# Altium integrated library ON Semi General Purpose Transistors.IntLib: 1679 symbols (part 29 of 36)
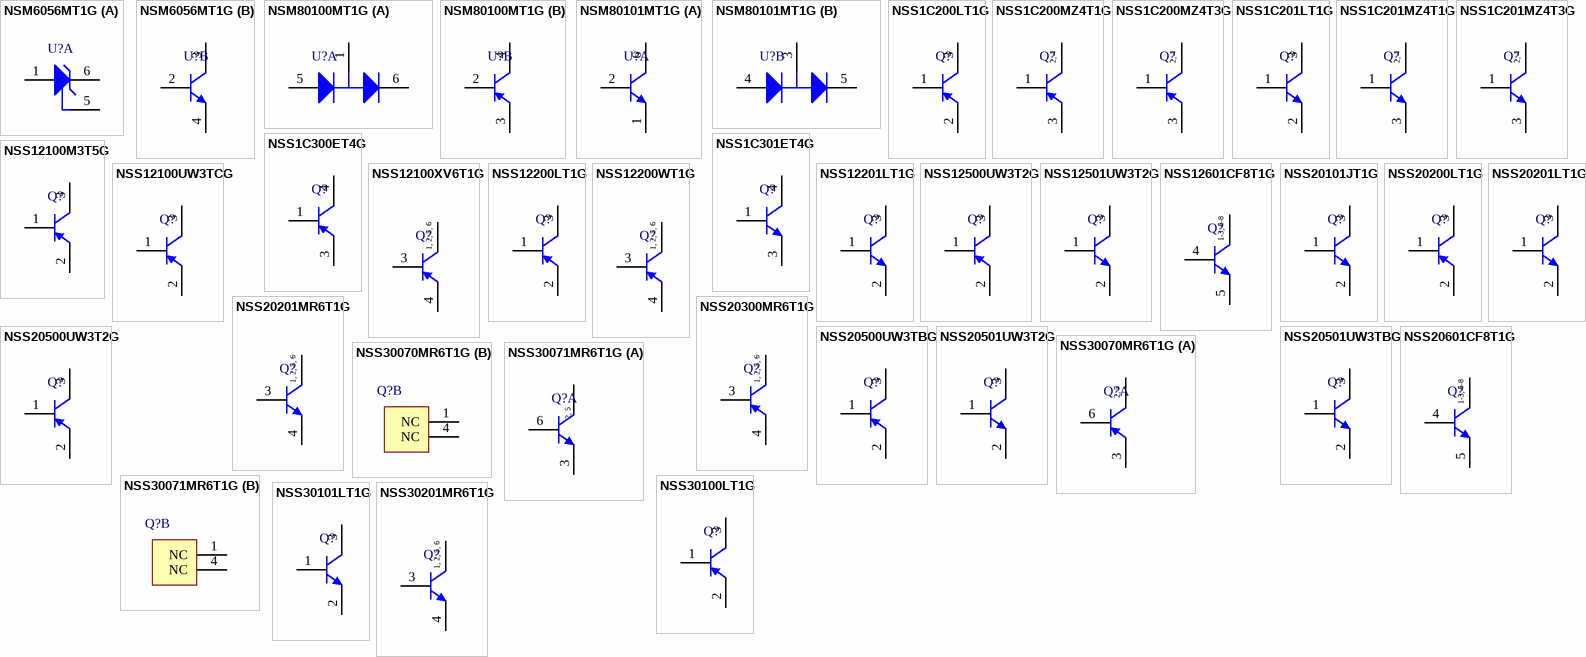
[diagram p73: symbols NSM6056MT1G to NSS30201MR6T1G]

## NSS1C300ET4G
designator Q?
100 V, 3 A, Low VCE(sat), PNP Transistor, 3-Pin DPAK, Pb-Free, Tape and Reel; Manufacturer: On Semiconductor; PartNumber: NSS1C300ET4G; Note: 0; IC Continuous (A): 3; DatasheetVersion: Rev. 6; PackageVersion: Rev. E, 02/2014; PackageReference: DPAK-3-369C-01; PackageDescription: 3-Pin Flange Mount, Body 6.54 x 6.095 mm, Pitch 2.29 mm; Packing: Tape and Reel; Polarity: PNP; RoHS: TRUE; Mounting Technology: Surface Mount; ComponentLink1Description: Manufacturer URL; ComponentLink1URL: http://www.onsemi.com/; ComponentLink2Description: Datasheet; ComponentLink2URL: http://www.onsemi.cn/pub_link/Collateral/NSS1C300E-D.PDF; ComponentLink3Description: Package Specification; ComponentLink3URL: http://www.onsemi.cn/pub_link/Collateral/369C.PDF
footprint ONSC-DPAK-3-369C-01_V (DPAK, 3-Leads, Body 6.54x6.095mm, Pitch 2.29mm)
pins: 1 B, 3 E, 4 C

## NSS1C301ET4G
designator Q?
100 V, 3 A, Low VCE(sat), NPN Transistor, 3-Pin DPAK, Pb-Free, Tape and Reel; Manufacturer: On Semiconductor; PartNumber: NSS1C301ET4G; IC Continuous (A): 3; DatasheetVersion: Rev. 3; PackageVersion: Rev. E, 02/2014; PackageReference: DPAK-3-369C-01; PackageDescription: 3-Pin Flange Mount, Body 6.54 x 6.095 mm, Pitch 2.29 mm; Supplier 1: Newark; Supplier Part Number 1: 63W4908; Packing: Tape and Reel; Polarity: NPN; RoHS: TRUE; Mounting Technology: Surface Mount; ComponentLink1Description: Manufacturer URL; ComponentLink1URL: http://www.onsemi.com/; ComponentLink2Description: Datasheet; ComponentLink2URL: http://www.onsemi.cn/pub_link/Collateral/NSS1C301E-D.PDF; ComponentLink3Description: Package Specification; ComponentLink3URL: http://www.onsemi.cn/pub_link/Collateral/369C.PDF
footprint ONSC-DPAK-3-369C-01_V (DPAK, 3-Leads, Body 6.54x6.095mm, Pitch 2.29mm)
pins: 1 B, 3 E, 4 C

## NSS12100M3T5G
designator Q?
12 V, 1 A, Low VCE(sat), PNP Transistor, 3-Pin SOT-723, Pb-Free, Tape and Reel; Manufacturer: On Semiconductor; PartNumber: NSS12100M3T5G; IC Continuous (A): -1; DatasheetVersion: Rev. 0; PackageVersion: Rev. C, 08/2006; PackageReference: SOT-723-3-631AA-01_C; PackageDescription: 3-Pin SOT223, Body 0.8 x 1.2 mm, Pitch 0.4 mm; Supplier 1: Digi-Key; Supplier Part Number 1: NSS12100M3T5GOSTR-ND; Supplier 2: Digi-Key; Supplier Part Number 2: NSS12100M3T5GOSCT-ND; Supplier 3: Digi-Key; Supplier Part Number 3: NSS12100M3T5GOSDKR-ND; Supplier 4: Newark; Supplier Part Number 4: 57M9898; Supplier 5: Mouser; Supplier Part Number 5: 863-NSS12100M3T5G; Packing: Tape and Reel; Polarity: PNP; RoHS: TRUE; Mounting Technology: Surface Mount; ComponentLink1Description: Manufacturer URL; ComponentLink1URL: http://www.onsemi.com/; ComponentLink2Description: Datasheet; ComponentLink2URL: http://www.onsemi.cn/pub_link/Collateral/NSS12100M3-D.PDF; ComponentLink3Description: Package Specification; ComponentLink3URL: http://www.onsemi.cn/pub_link/Collateral/BAT54M3-D.PDF
footprint ONSC-SOT-723-3-631AA-01_C_V (SOT23, 3-Leads, Body 1.25x0.85mm, Pitch 0.4mm)
pins: 1 B, 2 E, 3 C

## NSS12100UW3TCG
designator Q?
12 V, 1 A, Low VCE(sat), PNP Transistor, 3-Pin WDFN, Pb-Free, Tape and Reel; Manufacturer: On Semiconductor; PartNumber: NSS12100UW3TCG; fT Min (MHz): 200; IC Continuous (A): -1; DatasheetVersion: Rev. 0; PackageVersion: Rev. O, 09/2005; PackageReference: WDFN-3-506AU-01; PackageDescription: 3-Pin Small Outline No-Lead, Body 2 x 2 mm, Pitch 1.3 mm; Supplier 1: Digi-Key; Supplier Part Number 1: NSS12100UW3TCGOSTR-ND; Supplier 2: Digi-Key; Supplier Part Number 2: NSS12100UW3TCGOSCT-ND; Supplier 3: Digi-Key; Supplier Part Number 3: NSS12100UW3TCGOSDKR-ND; Supplier 4: Newark; Supplier Part Number 4: 01P5106; Supplier 5: Mouser; Supplier Part Number 5: 863-NSS12100UW3TCG; Packing: Tape and Reel; Polarity: PNP; RoHS: TRUE; Mounting Technology: Surface Mount; ComponentLink1Description: Manufacturer URL; ComponentLink1URL: http://www.onsemi.com/; ComponentLink2Description: Datasheet; ComponentLink2URL: http://www.onsemi.cn/pub_link/Collateral/NSS12100UW3-D.PDF; ComponentLink3Description: Package Specification; ComponentLink3URL: http://www.onsemi.com/pub_link/Collateral/506AU.PDF
footprint ONSC-WDFN-3-506AU-01_V (WDFN, 3-Leads, Body 2 x 2mm, Pitch 1.3mm)
pins: 1 B, 2 E, 3 C

## NSS12100XV6T1G
designator Q?
12 V, 1 A, Low VCE(sat), PNP Transistor, 6-Pin SOT-563, Pb-Free, Tape and Reel; Manufacturer: On Semiconductor; PartNumber: NSS12100XV6T1G; IC Continuous (A): -1; DatasheetVersion: Rev. 0; PackageVersion: Rev. F, 04/2005; PackageReference: SOT-563-6-463A-01; PackageDescription: 6-Pin Small Outline Transistor, Body 1.6 x 1.2 mm, Pitch 0.5 mm; Supplier 1: Digi-Key; Supplier Part Number 1: NSS12100XV6T1GOSTR-ND; Supplier 2: Digi-Key; Supplier Part Number 2: NSS12100XV6T1GOSCT-ND; Supplier 3: Digi-Key; Supplier Part Number 3: NSS12100XV6T1GOSDKR-ND; Supplier 4: Farnell; Supplier Part Number 4: 2317587; Supplier 5: Farnell; Supplier Part Number 5: 2369154; Supplier 6: Newark; Supplier Part Number 6: 09R9614; Supplier 7: Newark; Supplier Part Number 7: 27M2679; Supplier 8: Mouser; Supplier Part Number 8: 863-NSS12100XV6T1G; Packing: Tape and Reel; Polarity: PNP; RoHS: TRUE; Mounting Technology: Surface Mount; ComponentLink1Description: Manufacturer URL; ComponentLink1URL: http://www.onsemi.com/; ComponentLink2Description: Datasheet; ComponentLink2URL: http://www.onsemi.cn/pub_link/Collateral/NSS12100XV6-D.PDF; ComponentLink3Description: Package Specification; ComponentLink3URL: http://www.onsemi.cn/pub_link/Collateral/463A-01.PDF
footprint ONSC-SOT-563-6-463A-01_V (SOT23, 6-Leads, Body 1.6x1.2mm, Pitch 0.5mm)
pins: 1 C, 2 C, 3 B, 4 E, 5 C, 6 C
text: 1, 2, 5, 6

## NSS12200LT1G
designator Q?
12 V, 4 A, Low VCE(sat), PNP Transistor, 3-Pin SOT-23, Pb-Free, Tape and Reel; Manufacturer: On Semiconductor; PartNumber: NSS12200LT1G; fT Min (MHz): 100; IC Continuous (A): -2; DatasheetVersion: Rev. 3; PackageVersion: Rev. AP, 11/2009; PackageReference: SOT-23-3-318-08; PackageDescription: 3-Pin Small Outline Transistor, Body 2.92 x 1.3 mm, Pitch 0.95 mm; Supplier 1: Digi-Key; Supplier Part Number 1: NSS12200LT1GOSTR-ND; Supplier 2: Digi-Key; Supplier Part Number 2: NSS12200LT1GOSCT-ND; Supplier 3: Digi-Key; Supplier Part Number 3: NSS12200LT1GOSDKR-ND; Supplier 4: Newark; Supplier Part Number 4: 27M2680; Supplier 5: Mouser; Supplier Part Number 5: 863-NSS12200LT1G; Packing: Tape and Reel; Polarity: PNP; RoHS: TRUE; Mounting Technology: Surface Mount; ComponentLink1Description: Manufacturer URL; ComponentLink1URL: http://www.onsemi.com/; ComponentLink2Description: Datasheet; ComponentLink2URL: http://www.onsemi.cn/pub_link/Collateral/NSS12200L-D.PDF; ComponentLink3Description: Package Specification; ComponentLink3URL: http://www.onsemi.cn/pub_link/Collateral/318-08.PDF
footprint ONSC-SOT-23-3-318-08_V (SOT23, 3-Leads, Body 2.92x1.3mm, Pitch 0.95mm)
pins: 1 B, 2 E, 3 C

## NSS12200WT1G
designator Q?
12 V, 2 A, Low VCE(sat), PNP Transistor, 6-Pin SOT-363, Pb-Free, Tape and Reel; Manufacturer: On Semiconductor; PartNumber: NSS12200WT1G; IC Continuous (A): -2; DatasheetVersion: Rev. 2; PackageVersion: Rev. W, 01/2006; PackageReference: SOT-363-6-419B-02_W; PackageDescription: 6-Pin Small Outline Transistor, Body 2 x 1.25 mm, Pitch 0.65 mm; Supplier 1: Digi-Key; Supplier Part Number 1: NSS12200WT1GOSTR-ND; Supplier 2: Digi-Key; Supplier Part Number 2: NSS12200WT1GOSCT-ND; Supplier 3: Digi-Key; Supplier Part Number 3: NSS12200WT1GOSDKR-ND; Supplier 4: Mouser; Supplier Part Number 4: 863-NSS12200WT1G; Packing: Tape and Reel; Polarity: PNP; RoHS: TRUE; Mounting Technology: Surface Mount; ComponentLink1Description: Manufacturer URL; ComponentLink1URL: http://www.onsemi.com/; ComponentLink2Description: Datasheet; ComponentLink2URL: http://www.onsemi.cn/pub_link/Collateral/NSS12200WT1G-D.PDF; ComponentLink3Description: Package Specification; ComponentLink3URL: http://www.onsemi.com/pub_link/Collateral/NTJD4001N-D.PDF
footprint ONSC-SOT-363-6-419B-02_W_V (SOT23, 6-Leads, Body 2x1.25mm, Pitch 0.65mm)
pins: 1 C, 2 C, 3 B, 4 E, 5 C, 6 C
text: 1, 2, 5, 6

## NSS12201LT1G
designator Q?
12 V, 4 A, Low VCE(sat), NPN Transistor, 3-Pin SOT-23, Pb-Free, Tape and Reel; Manufacturer: On Semiconductor; PartNumber: NSS12201LT1G; fT Min (MHz): 150; IC Continuous (A): 2; DatasheetVersion: Rev. 5; PackageVersion: Rev. AP, 11/2009; PackageReference: SOT-23-3-318-08; PackageDescription: 3-Pin Small Outline Transistor, Body 2.92 x 1.3 mm, Pitch 0.95 mm; Supplier 1: Digi-Key; Supplier Part Number 1: NSS12201LT1GOSTR-ND; Supplier 2: Digi-Key; Supplier Part Number 2: NSS12201LT1GOSCT-ND; Supplier 3: Digi-Key; Supplier Part Number 3: NSS12201LT1GOSDKR-ND; Supplier 4: Farnell; Supplier Part Number 4: 1468035; Supplier 5: Newark; Supplier Part Number 5: 50M4390; Supplier 6: Mouser; Supplier Part Number 6: 863-NSS12201LT1G; Packing: Tape and Reel; Polarity: NPN; RoHS: TRUE; Mounting Technology: Surface Mount; ComponentLink1Description: Manufacturer URL; ComponentLink1URL: http://www.onsemi.com/; ComponentLink2Description: Datasheet; ComponentLink2URL: http://www.onsemi.cn/pub_link/Collateral/NSS12201L-D.PDF; ComponentLink3Description: Package Specification; ComponentLink3URL: http://www.onsemi.cn/pub_link/Collateral/318-08.PDF
footprint ONSC-SOT-23-3-318-08_V (SOT23, 3-Leads, Body 2.92x1.3mm, Pitch 0.95mm)
pins: 1 B, 2 E, 3 C

## NSS12500UW3T2G
designator Q?
12 V, 8 A, Low VCE(sat), PNP Transistor, 3-Pin WDFN, Pb-Free, Tape and Reel; Manufacturer: On Semiconductor; PartNumber: NSS12500UW3T2G; fT Min (MHz): 100; IC Continuous (A): -5; DatasheetVersion: Rev. 1; PackageVersion: Rev. O, 09/2005; PackageReference: WDFN-3-506AU-01; PackageDescription: 3-Pin Small Outline No-Lead, Body 2 x 2 mm, Pitch 1.3 mm; Supplier 1: Digi-Key; Supplier Part Number 1: NSS12500UW3T2GOSTR-ND; Supplier 2: Digi-Key; Supplier Part Number 2: NSS12500UW3T2GOSCT-ND; Supplier 3: Digi-Key; Supplier Part Number 3: NSS12500UW3T2GOSDKR-ND; Supplier 4: Newark; Supplier Part Number 4: 27M2681; Supplier 5: Mouser; Supplier Part Number 5: 863-NSS12500UW3T2G; Packing: Tape and Reel; Polarity: PNP; RoHS: TRUE; Mounting Technology: Surface Mount; ComponentLink1Description: Manufacturer URL; ComponentLink1URL: http://www.onsemi.com/; ComponentLink2Description: Datasheet; ComponentLink2URL: http://www.onsemi.cn/pub_link/Collateral/NSS12500UW3.PDF; ComponentLink3Description: Package Specification; ComponentLink3URL: http://www.onsemi.com/pub_link/Collateral/506AU.PDF
footprint ONSC-WDFN-3-506AU-01_V (WDFN, 3-Leads, Body 2 x 2mm, Pitch 1.3mm)
pins: 1 B, 2 E, 3 C

## NSS12501UW3T2G
designator Q?
12 V, 7 A, Low VCE(sat), NPN Transistor, 3-Pin WDFN, Pb-Free, Tape and Reel; Manufacturer: On Semiconductor; PartNumber: NSS12501UW3T2G; fT Min (MHz): 150; IC Continuous (A): 5; DatasheetVersion: Rev. 2; PackageVersion: Rev. O, 09/2005; PackageReference: WDFN-3-506AU-01; PackageDescription: 3-Pin Small Outline No-Lead, Body 2 x 2 mm, Pitch 1.3 mm; Supplier 1: Digi-Key; Supplier Part Number 1: NSS12501UW3T2GOSTR-ND; Supplier 2: Digi-Key; Supplier Part Number 2: NSS12501UW3T2GOSCT-ND; Supplier 3: Digi-Key; Supplier Part Number 3: NSS12501UW3T2GOSDKR-ND; Supplier 4: Mouser; Supplier Part Number 4: 863-NSS12501UW3T2G; Packing: Tape and Reel; Polarity: NPN; RoHS: TRUE; Mounting Technology: Surface Mount; ComponentLink1Description: Manufacturer URL; ComponentLink1URL: http://www.onsemi.com/; ComponentLink2Description: Datasheet; ComponentLink2URL: http://www.onsemi.cn/pub_link/Collateral/NSS12501UW3-D.PDF; ComponentLink3Description: Package Specification; ComponentLink3URL: http://www.onsemi.com/pub_link/Collateral/506AU.PDF
footprint ONSC-WDFN-3-506AU-01_V (WDFN, 3-Leads, Body 2 x 2mm, Pitch 1.3mm)
pins: 1 B, 2 E, 3 C

## NSS12601CF8T1G
designator Q?
12 V, 8 A, Low VCE(sat), NPN Transistor, 8-Pin CHIPFET, Pb-Free, Tape and Reel; Manufacturer: On Semiconductor; PartNumber: NSS12601CF8T1G; fT Min (MHz): 140; IC Continuous (A): 6; DatasheetVersion: Rev. 1; PackageVersion: Rev. H, 10/2006; PackageReference: CHIPFET-8-1206A-03; PackageDescription: 8-Pin ChipFET, Body 3.025 x 1.625 mm, Pitch 0.65 mm; Supplier 1: Digi-Key; Supplier Part Number 1: NSS12601CF8T1GOSTR-ND; Supplier 2: Digi-Key; Supplier Part Number 2: NSS12601CF8T1GOSCT-ND; Supplier 3: Digi-Key; Supplier Part Number 3: NSS12601CF8T1GOSDKR-ND; Supplier 4: Newark; Supplier Part Number 4: 50M4392; Supplier 5: Mouser; Supplier Part Number 5: 863-NSS12601CF8T1G; Packing: Tape and Reel; Polarity: NPN; RoHS: TRUE; Mounting Technology: Surface Mount; ComponentLink1Description: Manufacturer URL; ComponentLink1URL: http://www.onsemi.com/; ComponentLink2Description: Datasheet; ComponentLink2URL: http://www.onsemi.cn/pub_link/Collateral/NSS12601CF8-D.PDF; ComponentLink3Description: Package Specification; ComponentLink3URL: http://www.onsemi.cn/pub_link/Collateral/NSS12601CF8-D.PDF
footprint ONSC-CHIPFET-8-1206A-03_V (SON, 8-Leads, Body 3.026x1.626mm, Pitch 0.635mm)
pins: 1 C, 2 C, 3 C, 4 B, 5 E, 6 C, 7 C, 8 C
text: 1-3, 6-8

## NSS20101JT1G
designator Q?
20 V, 1 A, Low VCE(sat), NPN Transistor, 3-Pin SC-89, Pb-Free, Tape and Reel; Manufacturer: On Semiconductor; PartNumber: NSS20101JT1G; IC Continuous (A): 1; DatasheetVersion: Rev. 3; PackageVersion: Rev. C, 07/2003; PackageReference: SC-89-3-463C-02; PackageDescription: 3-Pin Small Outline Transistor, Body 1.6 x 0.85 mm, Pitch 0.5 mm; Supplier 1: Digi-Key; Supplier Part Number 1: NSS20101JT1GOSTR-ND; Supplier 2: Digi-Key; Supplier Part Number 2: NSS20101JT1GOSCT-ND; Supplier 3: Digi-Key; Supplier Part Number 3: NSS20101JT1GOSDKR-ND; Supplier 4: Farnell; Supplier Part Number 4: 2317600; Supplier 5: Newark; Supplier Part Number 5: 85W3179; Supplier 6: Mouser; Supplier Part Number 6: 863-NSS20101JT1G; Packing: Tape and Reel; Polarity: NPN; RoHS: TRUE; Mounting Technology: Surface Mount; ComponentLink1Description: Manufacturer URL; ComponentLink1URL: http://www.onsemi.com/; ComponentLink2Description: Datasheet; ComponentLink2URL: http://www.onsemi.com/pub_link/Collateral/NSS20101J-D.PDF; ComponentLink3Description: Package Specification; ComponentLink3URL: http://www.onsemi.com/pub_link/Collateral/463C-02.PDF
footprint ONSC-SC-89-3-463C-02_V (SOT23, 3-Leads, Body 1.6x0.85mm, Pitch 0.5mm)
pins: 1 B, 2 E, 3 C

## NSS20200LT1G
designator Q?
20 V, 4 A, Low VCE(sat), PNP Transistor, 3-Pin SOT-23, Pb-Free, Tape and Reel; Manufacturer: On Semiconductor; PartNumber: NSS20200LT1G; fT Min (MHz): 100; IC Continuous (A): -2; DatasheetVersion: Rev. 4; PackageVersion: Rev. AP, 11/2009; PackageReference: SOT-23-3-318-08; PackageDescription: 3-Pin Small Outline Transistor, Body 2.92 x 1.3 mm, Pitch 0.95 mm; Supplier 1: Digi-Key; Supplier Part Number 1: NSS20200LT1GOSTR-ND; Supplier 2: Digi-Key; Supplier Part Number 2: NSS20200LT1GOSCT-ND; Supplier 3: Digi-Key; Supplier Part Number 3: NSS20200LT1GOSDKR-ND; Supplier 4: Farnell; Supplier Part Number 4: 1887110; Supplier 5: Newark; Supplier Part Number 5: 09R9616; Supplier 6: Mouser; Supplier Part Number 6: 863-NSS20200LT1G; Packing: Tape and Reel; Polarity: PNP; RoHS: TRUE; Mounting Technology: Surface Mount; ComponentLink1Description: Manufacturer URL; ComponentLink1URL: http://www.onsemi.com/; ComponentLink2Description: Datasheet; ComponentLink2URL: http://www.onsemi.com/pub_link/Collateral/NSS20200L-D.PDF; ComponentLink3Description: Package Specification; ComponentLink3URL: http://www.onsemi.cn/pub_link/Collateral/318-08.PDF
footprint ONSC-SOT-23-3-318-08_V (SOT23, 3-Leads, Body 2.92x1.3mm, Pitch 0.95mm)
pins: 1 B, 2 E, 3 C

## NSS20201LT1G
designator Q?
20 V, 4 A, Low VCE(sat), NPN Transistor, 3-Pin SOT-23, Pb-Free, Tape and Reel; Manufacturer: On Semiconductor; PartNumber: NSS20201LT1G; fT Min (MHz): 150; IC Continuous (A): 2; DatasheetVersion: Rev. 6; PackageVersion: Rev. AP, 11/2009; PackageReference: SOT-23-3-318-08; PackageDescription: 3-Pin Small Outline Transistor, Body 2.92 x 1.3 mm, Pitch 0.95 mm; Supplier 1: Digi-Key; Supplier Part Number 1: NSS20201LT1GOSTR-ND; Supplier 2: Digi-Key; Supplier Part Number 2: NSS20201LT1GOSCT-ND; Supplier 3: Digi-Key; Supplier Part Number 3: NSS20201LT1GOSDKR-ND; Supplier 4: Newark; Supplier Part Number 4: 50M4393; Supplier 5: Mouser; Supplier Part Number 5: 863-NSS20201LT1G; Packing: Tape and Reel; Polarity: NPN; RoHS: TRUE; Mounting Technology: Surface Mount; ComponentLink1Description: Manufacturer URL; ComponentLink1URL: http://www.onsemi.com/; ComponentLink2Description: Datasheet; ComponentLink2URL: http://www.onsemi.com/pub_link/Collateral/NSS20201L-D.PDF; ComponentLink3Description: Package Specification; ComponentLink3URL: http://www.onsemi.cn/pub_link/Collateral/318-08.PDF
footprint ONSC-SOT-23-3-318-08_V (SOT23, 3-Leads, Body 2.92x1.3mm, Pitch 0.95mm)
pins: 1 B, 2 E, 3 C

## NSS20201MR6T1G
designator Q?
20 V, 3 A, Low VCE(sat), NPN Transistor, 6-Pin TSOP, Pb-Free, Tape and Reel; Manufacturer: On Semiconductor; PartNumber: NSS20201MR6T1G; fT Min (MHz): 200; IC Continuous (A): 2; DatasheetVersion: Rev. 0; PackageVersion: Rev. N, 02/2005; PackageReference: TSOP-6-318G-02_N; PackageDescription: 6-Pin Small Outline Package, Body 1.5 x 3 mm, Pitch 0.95 mm; Supplier 1: Digi-Key; Supplier Part Number 1: NSS20201MR6T1GOSTR-ND; Supplier 2: Digi-Key; Supplier Part Number 2: NSS20201MR6T1GOSCT-ND; Supplier 3: Digi-Key; Supplier Part Number 3: NSS20201MR6T1GOSDKR-ND; Supplier 4: Mouser; Supplier Part Number 4: 863-NSS20201MR6T1G; Packing: Tape and Reel; Polarity: NPN; RoHS: TRUE; Mounting Technology: Surface Mount; ComponentLink1Description: Manufacturer URL; ComponentLink1URL: http://www.onsemi.com/; ComponentLink2Description: Datasheet; ComponentLink2URL: http://www.onsemi.com/pub_link/Collateral/NSS20201MR6T1G.PDF; ComponentLink3Description: Package Specification; ComponentLink3URL: http://www.onsemi.com/pub_link/Collateral/NSS20201MR6T1G.PDF
footprint ONSC-TSOP-6-318G-02_N_V (TSOP, 6-Leads, Body 3x1.5mm, Pitch 0.95mm)
pins: 1 C, 2 C, 3 B, 4 E, 5 C, 6 C
text: 1, 2, 5, 6

## NSS20300MR6T1G
designator Q?
20 V, 5 A, Low VCE(sat), PNP Transistor, 6-Pin TSOP, Pb-Free, Tape and Reel; Manufacturer: On Semiconductor; PartNumber: NSS20300MR6T1G; fT Min (MHz): 100; IC Continuous (A): -3; DatasheetVersion: Rev. 2; PackageVersion: Rev. T, 02/2008; PackageReference: TSOP-6-318G-02_T; PackageDescription: 6-Pin Small Outline Package, Body 1.5 x 3 mm, Pitch 0.95 mm; Supplier 1: Digi-Key; Supplier Part Number 1: NSS20300MR6T1GOSTR-ND; Supplier 2: Digi-Key; Supplier Part Number 2: NSS20300MR6T1GOSCT-ND; Supplier 3: Digi-Key; Supplier Part Number 3: NSS20300MR6T1GOSDKR-ND; Supplier 4: Mouser; Supplier Part Number 4: 863-NSS20300MR6T1G; Packing: Tape and Reel; Polarity: PNP; RoHS: TRUE; Mounting Technology: Surface Mount; ComponentLink1Description: Manufacturer URL; ComponentLink1URL: http://www.onsemi.com/; ComponentLink2Description: Datasheet; ComponentLink2URL: http://www.onsemi.com/pub_link/Collateral/NSS20300MR6T1G-D.PDF; ComponentLink3Description: Package Specification; ComponentLink3URL: http://www.onsemi.com/pub_link/Collateral/NSS20300MR6T1G-D.PDF
footprint ONSC-TSOP-6-318G-02_T_V (SOP, 6-Leads, Body 3x1.5mm, Pitch 0.95mm)
pins: 1 C, 2 C, 3 B, 4 E, 5 C, 6 C
text: 1, 2, 5, 6

## NSS20500UW3T2G
designator Q?
20 V, 7 A, Low VCE(sat), PNP Transistor, 3-Pin WDFN, Pb-Free, Tape and Reel; Manufacturer: On Semiconductor; PartNumber: NSS20500UW3T2G; fT Min (MHz): 100; IC Continuous (A): -5; DatasheetVersion: Rev. 3; PackageVersion: Rev. O, 09/2005; PackageReference: WDFN-3-506AU-01; PackageDescription: 3-Pin Small Outline No-Lead, Body 2 x 2 mm, Pitch 1.3 mm; Supplier 1: Digi-Key; Supplier Part Number 1: NSS20500UW3T2GOSTR-ND; Supplier 2: Digi-Key; Supplier Part Number 2: NSS20500UW3T2GOSCT-ND; Supplier 3: Digi-Key; Supplier Part Number 3: NSS20500UW3T2GOSDKR-ND; Supplier 4: Mouser; Supplier Part Number 4: 863-NSS20500UW3T2G; Packing: Tape and Reel; Polarity: PNP; RoHS: TRUE; Mounting Technology: Surface Mount; ComponentLink1Description: Manufacturer URL; ComponentLink1URL: http://www.onsemi.com/; ComponentLink2Description: Datasheet; ComponentLink2URL: http://www.onsemi.com/pub_link/Collateral/NSS20500UW3-D.PDF; ComponentLink3Description: Package Specification; ComponentLink3URL: http://www.onsemi.com/pub_link/Collateral/506AU.PDF
footprint ONSC-WDFN-3-506AU-01_V (WDFN, 3-Leads, Body 2 x 2mm, Pitch 1.3mm)
pins: 1 B, 2 E, 3 C

## NSS20500UW3TBG
designator Q?
20 V, 7 A, Low VCE(sat), PNP Transistor, 3-Pin WDFN, Pb-Free, Tape and Reel; Manufacturer: On Semiconductor; PartNumber: NSS20500UW3TBG; fT Min (MHz): 100; IC Continuous (A): -5; DatasheetVersion: Rev. 3; PackageVersion: Rev. O, 09/2005; PackageReference: WDFN-3-506AU-01; PackageDescription: 3-Pin Small Outline No-Lead, Body 2 x 2 mm, Pitch 1.3 mm; Supplier 1: Newark; Supplier Part Number 1: 72W2310; Supplier 2: Mouser; Supplier Part Number 2: 863-NSS20500UW3TBG; Packing: Tape and Reel; Polarity: PNP; RoHS: TRUE; Mounting Technology: Surface Mount; ComponentLink1Description: Manufacturer URL; ComponentLink1URL: http://www.onsemi.com/; ComponentLink2Description: Datasheet; ComponentLink2URL: http://www.onsemi.com/pub_link/Collateral/NSS20500UW3-D.PDF; ComponentLink3Description: Package Specification; ComponentLink3URL: http://www.onsemi.com/pub_link/Collateral/506AU.PDF
footprint ONSC-WDFN-3-506AU-01_V (WDFN, 3-Leads, Body 2 x 2mm, Pitch 1.3mm)
pins: 1 B, 2 E, 3 C

## NSS20501UW3T2G
designator Q?
20 V, 7 A, Low VCE(sat), NPN Transistor, 3-Pin WDFN, Pb-Free, Tape and Reel; Manufacturer: On Semiconductor; PartNumber: NSS20501UW3T2G; fT Min (MHz): 150; IC Continuous (A): 5; DatasheetVersion: Rev. 3; PackageVersion: Rev. O, 09/2005; PackageReference: WDFN-3-506AU-01; PackageDescription: 3-Pin Small Outline No-Lead, Body 2 x 2 mm, Pitch 1.3 mm; Supplier 1: Digi-Key; Supplier Part Number 1: NSS20501UW3T2GOSTR-ND; Supplier 2: Digi-Key; Supplier Part Number 2: NSS20501UW3T2GOSCT-ND; Supplier 3: Digi-Key; Supplier Part Number 3: NSS20501UW3T2GOSDKR-ND; Supplier 4: Mouser; Supplier Part Number 4: 863-NSS20501UW3T2G; Packing: Tape and Reel; Polarity: NPN; RoHS: TRUE; Mounting Technology: Surface Mount; ComponentLink1Description: Manufacturer URL; ComponentLink1URL: http://www.onsemi.com/; ComponentLink2Description: Datasheet; ComponentLink2URL: http://www.onsemi.com/pub_link/Collateral/NSS20501UW3-D.PDF; ComponentLink3Description: Package Specification; ComponentLink3URL: http://www.onsemi.com/pub_link/Collateral/506AU.PDF
footprint ONSC-WDFN-3-506AU-01_V (WDFN, 3-Leads, Body 2 x 2mm, Pitch 1.3mm)
pins: 1 B, 2 E, 3 C

## NSS20501UW3TBG
designator Q?
20 V, 7 A, Low VCE(sat), NPN Transistor, 3-Pin WDFN, Pb-Free, Tape and Reel; Manufacturer: On Semiconductor; PartNumber: NSS20501UW3TBG; fT Min (MHz): 150; IC Continuous (A): 5; DatasheetVersion: Rev. 3; PackageVersion: Rev. O, 09/2005; PackageReference: WDFN-3-506AU-01; PackageDescription: 3-Pin Small Outline No-Lead, Body 2 x 2 mm, Pitch 1.3 mm; Supplier 1: Newark; Supplier Part Number 1: 72W2311; Supplier 2: Mouser; Supplier Part Number 2: 863-NSS20501UW3TBG; Packing: Tape and Reel; Polarity: NPN; RoHS: TRUE; Mounting Technology: Surface Mount; ComponentLink1Description: Manufacturer URL; ComponentLink1URL: http://www.onsemi.com/; ComponentLink2Description: Datasheet; ComponentLink2URL: http://www.onsemi.com/pub_link/Collateral/NSS20501UW3-D.PDF; ComponentLink3Description: Package Specification; ComponentLink3URL: http://www.onsemi.com/pub_link/Collateral/506AU.PDF
footprint ONSC-WDFN-3-506AU-01_V (WDFN, 3-Leads, Body 2 x 2mm, Pitch 1.3mm)
pins: 1 B, 2 E, 3 C

## NSS20601CF8T1G
designator Q?
20 V, 8 A, Low VCE(sat), NPN Transistor, 8-Pin CHIPFET, Pb-Free, Tape and Reel; Manufacturer: On Semiconductor; PartNumber: NSS20601CF8T1G; fT Min (MHz): 140; DatasheetVersion: Rev. 1; PackageVersion: Rev. H, 10/2006; PackageReference: CHIPFET-8-1206A-03; PackageDescription: 8-Pin ChipFET, Body 3.025 x 1.625 mm, Pitch 0.65 mm; Supplier 1: Digi-Key; Supplier Part Number 1: NSS20601CF8T1GOSTR-ND; Supplier 2: Digi-Key; Supplier Part Number 2: NSS20601CF8T1GOSCT-ND; Supplier 3: Digi-Key; Supplier Part Number 3: NSS20601CF8T1GOSDKR-ND; Supplier 4: Newark; Supplier Part Number 4: 50M4395; Supplier 5: Mouser; Supplier Part Number 5: 863-NSS20601CF8T1G; Packing: Tape and Reel; Polarity: NPN; RoHS: TRUE; Mounting Technology: Surface Mount; ComponentLink1Description: Manufacturer URL; ComponentLink1URL: http://www.onsemi.com/; ComponentLink2Description: Datasheet; ComponentLink2URL: http://www.onsemi.com/pub_link/Collateral/NSS20601CF8-D.PDF; ComponentLink3Description: Package Specification; ComponentLink3URL: http://www.onsemi.cn/pub_link/Collateral/NSS12601CF8-D.PDF
footprint ONSC-CHIPFET-8-1206A-03_V (SON, 8-Leads, Body 3.026x1.626mm, Pitch 0.635mm)
pins: 1 C, 2 C, 3 C, 4 B, 5 E, 6 C, 7 C, 8 C
text: 1-3, 6-8

## NSS30070MR6T1G
designator Q?
30 V, 0.7 A, Low VCE(sat), PNP Transistor, 6-Pin SC-74, Pb-Free, Tape and Reel; Manufacturer: On Semiconductor; PartNumber: NSS30070MR6T1G; IC Continuous (A): 0.7; DatasheetVersion: Rev. 1; PackageVersion: Rev. N, 06/2012; PackageReference: SC-74-6-318F-05; PackageDescription: 6-Pin Small Outline Transistor, Body 3 x 1.5 mm, Pitch 0.95 mm; Supplier 1: Digi-Key; Supplier Part Number 1: NSS30070MR6T1GOSTR-ND; Supplier 2: Digi-Key; Supplier Part Number 2: NSS30070MR6T1GOSCT-ND; Supplier 3: Digi-Key; Supplier Part Number 3: NSS30070MR6T1GOSDKR-ND; Supplier 4: Mouser; Supplier Part Number 4: 863-NSS30070MR6T1G; Packing: Tape and Reel; Polarity: PNP; RoHS: TRUE; Mounting Technology: Surface Mount; ComponentLink1Description: Manufacturer URL; ComponentLink1URL: http://www.onsemi.com/; ComponentLink2Description: Datasheet; ComponentLink2URL: http://www.onsemi.com/pub_link/Collateral/NSS30070MR6-D.PDF; ComponentLink3Description: Package Specification; ComponentLink3URL: http://www.onsemi.com/pub_link/Collateral/318F-05.PDF
footprint ONSC-SC-74-6-318F-05_V (SOT23, 6-Leads, Body 3x1.5mm, Pitch 0.95mm)
part A pins: 2 C, 3 E, 5 C, 6 B
part B pins: 1 NC, 4 NC
part A text: 2, 5

## NSS30071MR6T1G
designator Q?
30 V, 0.7 A, Low VCE(sat), NPN Transistor, 6-Pin SC-74, Pb-Free, Tape and Reel; Manufacturer: On Semiconductor; PartNumber: NSS30071MR6T1G; IC Continuous (A): 0.7; DatasheetVersion: Rev. 0; PackageVersion: Rev. N, 06/2012; PackageReference: SC-74-6-318F-05; PackageDescription: 6-Pin Small Outline Transistor, Body 3 x 1.5 mm, Pitch 0.95 mm; Supplier 1: Digi-Key; Supplier Part Number 1: NSS30071MR6T1GOSTR-ND; Supplier 2: Digi-Key; Supplier Part Number 2: NSS30071MR6T1GOSCT-ND; Supplier 3: Mouser; Supplier Part Number 3: 863-NSS30071MR6T1G; Packing: Tape and Reel; Polarity: NPN; RoHS: TRUE; Mounting Technology: Surface Mount; ComponentLink1Description: Manufacturer URL; ComponentLink1URL: http://www.onsemi.com/; ComponentLink2Description: Datasheet; ComponentLink2URL: http://www.onsemi.com/pub_link/Collateral/NSS30071MR6T1G.PDF; ComponentLink3Description: Package Specification; ComponentLink3URL: http://www.onsemi.com/pub_link/Collateral/318F-05.PDF
footprint ONSC-SC-74-6-318F-05_V (SOT23, 6-Leads, Body 3x1.5mm, Pitch 0.95mm)
part A pins: 2 C, 3 E, 5 C, 6 B
part B pins: 1 NC, 4 NC
part A text: 2, 5

## NSS30100LT1G
designator Q?
30 V, 2 A, Low VCE(sat), PNP Transistor, 3-Pin SOT-23, Pb-Free, Tape and Reel; Manufacturer: On Semiconductor; PartNumber: NSS30100LT1G; fT Min (MHz): 100; IC Continuous (A): -1; DatasheetVersion: Rev. 2; PackageVersion: Rev. AP, 11/2009; PackageReference: SOT-23-3-318-08; PackageDescription: 3-Pin Small Outline Transistor, Body 2.92 x 1.3 mm, Pitch 0.95 mm; Supplier 1: Digi-Key; Supplier Part Number 1: NSS30100LT1GOSTR-ND; Supplier 2: Digi-Key; Supplier Part Number 2: NSS30100LT1GOSCT-ND; Supplier 3: Digi-Key; Supplier Part Number 3: NSS30100LT1GOSDKR-ND; Supplier 4: Newark; Supplier Part Number 4: 61K1268; Supplier 5: Mouser; Supplier Part Number 5: 863-NSS30100LT1G; Packing: Tape and Reel; Polarity: PNP; RoHS: TRUE; Mounting Technology: Surface Mount; ComponentLink1Description: Manufacturer URL; ComponentLink1URL: http://www.onsemi.com/; ComponentLink2Description: Datasheet; ComponentLink2URL: http://www.onsemi.com/pub_link/Collateral/NSS30100LT1G-D.PDF; ComponentLink3Description: Package Specification; ComponentLink3URL: http://www.onsemi.cn/pub_link/Collateral/318-08.PDF
footprint ONSC-SOT-23-3-318-08_V (SOT23, 3-Leads, Body 2.92x1.3mm, Pitch 0.95mm)
pins: 1 B, 2 E, 3 C

## NSS30101LT1G
designator Q?
30 V, 2 A, Low VCE(sat), NPN Transistor, 3-Pin SOT-23, Pb-Free, Tape and Reel; Manufacturer: On Semiconductor; PartNumber: NSS30101LT1G; fT Min (MHz): 100; DatasheetVersion: Rev. 1; PackageVersion: Rev. AP, 11/2009; PackageReference: SOT-23-3-318-08; PackageDescription: 3-Pin Small Outline Transistor, Body 2.92 x 1.3 mm, Pitch 0.95 mm; Supplier 1: Digi-Key; Supplier Part Number 1: NSS30101LT1GOSTR-ND; Supplier 2: Digi-Key; Supplier Part Number 2: NSS30101LT1GOSCT-ND; Supplier 3: Digi-Key; Supplier Part Number 3: NSS30101LT1GOSDKR-ND; Supplier 4: Farnell; Supplier Part Number 4: 2317562; Supplier 5: Newark; Supplier Part Number 5: 09R9617; Supplier 6: Newark; Supplier Part Number 6: 61K1269; Supplier 7: Mouser; Supplier Part Number 7: 863-NSS30101LT1G; Packing: Tape and Reel; Polarity: NPN; RoHS: TRUE; Mounting Technology: Surface Mount; ComponentLink1Description: Manufacturer URL; ComponentLink1URL: http://www.onsemi.com/; ComponentLink2Description: Datasheet; ComponentLink2URL: http://www.onsemi.com/pub_link/Collateral/NSS30101LT1G-D.PDF; ComponentLink3Description: Package Specification; ComponentLink3URL: http://www.onsemi.cn/pub_link/Collateral/318-08.PDF
footprint ONSC-SOT-23-3-318-08_V (SOT23, 3-Leads, Body 2.92x1.3mm, Pitch 0.95mm)
pins: 1 B, 2 E, 3 C

## NSS30201MR6T1G
designator Q?
30 V, 3 A, Low VCE(sat), NPN Transistor, 6-Pin TSOP, Pb-Free, Tape and Reel; Manufacturer: On Semiconductor; PartNumber: NSS30201MR6T1G; fT Min (MHz): 200; IC Continuous (A): 2; DatasheetVersion: Rev. 1; PackageVersion: Rev. V, 06/2012; PackageReference: TSOP-6-318G-02; PackageDescription: 6-Pin Small Outline Package, Body 3 x 1.5 mm, Pitch 0.95 mm; Supplier 1: Digi-Key; Supplier Part Number 1: NSS30201MR6T1GOSTR-ND; Supplier 2: Digi-Key; Supplier Part Number 2: NSS30201MR6T1GOSCT-ND; Supplier 3: Newark; Supplier Part Number 3: 61K1270; Supplier 4: Mouser; Supplier Part Number 4: 863-NSS30201MR6T1G; Packing: Tape and Reel; Polarity: NPN; RoHS: TRUE; Mounting Technology: Surface Mount; ComponentLink1Description: Manufacturer URL; ComponentLink1URL: http://www.onsemi.com/; ComponentLink2Description: Datasheet; ComponentLink2URL: http://www.onsemi.com/pub_link/Collateral/NSS30201MR6T1G-D.PDF; ComponentLink3Description: Package Specification; ComponentLink3URL: http://www.onsemi.com/pub_link/Collateral/318G-02.PDF
footprint ONSC-TSOP-6-318G-02_V (SOP, 6-Leads, Body 3x1.5mm, Pitch 0.95mm)
pins: 1 C, 2 C, 3 B, 4 E, 5 C, 6 C
text: 1, 2, 5, 6

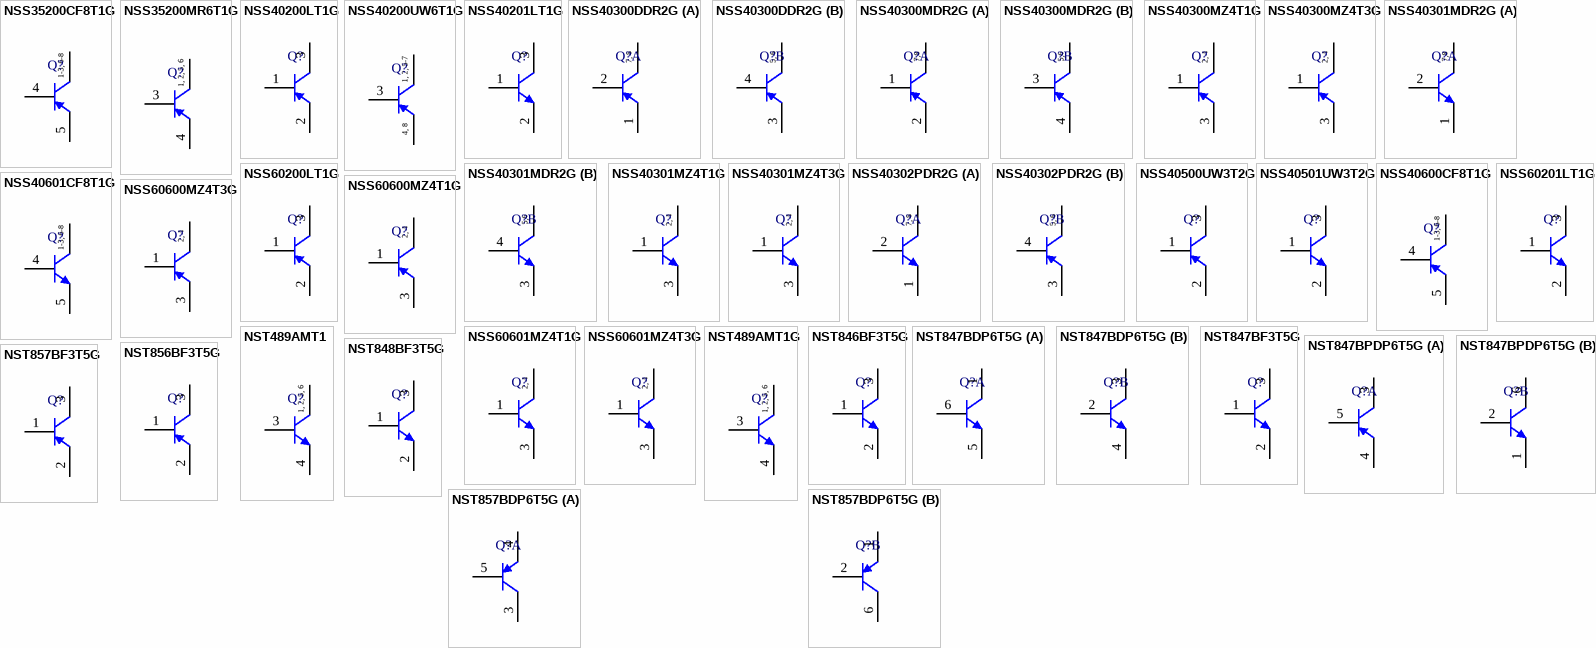
[diagram p36: symbols NSS35200CF8T1G to NST857BF3T5G]

## NSS35200CF8T1G
designator Q?
35 V, 7 A, Low VCE(sat), PNP Transistor, 8-Pin CHIPFET, Pb-Free, Tape and Reel; Manufacturer: On Semiconductor; PartNumber: NSS35200CF8T1G; fT Min (MHz): 100; IC Continuous (A): -2; DatasheetVersion: Rev. 5; PackageVersion: Rev. H, 10/2006; PackageReference: CHIPFET-8-1206A-03; PackageDescription: 8-Pin ChipFET, Body 3.025 x 1.625 mm, Pitch 0.65 mm; Supplier 1: Digi-Key; Supplier Part Number 1: NSS35200CF8T1GOSTR-ND; Supplier 2: Digi-Key; Supplier Part Number 2: NSS35200CF8T1GOSCT-ND; Supplier 3: Digi-Key; Supplier Part Number 3: NSS35200CF8T1GOSDKR-ND; Supplier 4: Mouser; Supplier Part Number 4: 863-NSS35200CF8T1G; Packing: Tape and Reel; Polarity: PNP; RoHS: TRUE; Mounting Technology: Surface Mount; ComponentLink1Description: Manufacturer URL; ComponentLink1URL: http://www.onsemi.com/; ComponentLink2Description: Datasheet; ComponentLink2URL: http://www.onsemi.com/pub_link/Collateral/NSS35200CF8T1G-D.PDF; ComponentLink3Description: Package Specification; ComponentLink3URL: http://www.onsemi.cn/pub_link/Collateral/NSS12601CF8-D.PDF
footprint ONSC-CHIPFET-8-1206A-03_V (SON, 8-Leads, Body 3.026x1.626mm, Pitch 0.635mm)
pins: 1 C, 2 C, 3 C, 4 B, 5 E, 6 C, 7 C, 8 C
text: 1-3, 6-8

## NSS35200MR6T1G
designator Q?
35 V, 5 A, Low VCE(sat), PNP Transistor, 6-Pin TSOP, Pb-Free, Tape and Reel; Manufacturer: On Semiconductor; PartNumber: NSS35200MR6T1G; fT Min (MHz): 100; IC Continuous (A): -2; DatasheetVersion: Rev. 5; PackageVersion: Rev. V, 06/2012; PackageReference: TSOP-6-318G-02; PackageDescription: 6-Pin Small Outline Package, Body 3 x 1.5 mm, Pitch 0.95 mm; Supplier 1: Digi-Key; Supplier Part Number 1: NSS35200MR6T1GOSTR-ND; Supplier 2: Digi-Key; Supplier Part Number 2: NSS35200MR6T1GOSCT-ND; Supplier 3: Digi-Key; Supplier Part Number 3: NSS35200MR6T1GOSDKR-ND; Supplier 4: Mouser; Supplier Part Number 4: 863-NSS35200MR6T1G; Packing: Tape and Reel; Polarity: PNP; RoHS: TRUE; Mounting Technology: Surface Mount; ComponentLink1Description: Manufacturer URL; ComponentLink1URL: http://www.onsemi.com/; ComponentLink2Description: Datasheet; ComponentLink2URL: http://www.onsemi.com/pub_link/Collateral/NSS35200MR6-D.PDF; ComponentLink3Description: Package Specification; ComponentLink3URL: http://www.onsemi.com/pub_link/Collateral/318G-02.PDF
footprint ONSC-TSOP-6-318G-02_V (SOP, 6-Leads, Body 3x1.5mm, Pitch 0.95mm)
pins: 1 C, 2 C, 3 B, 4 E, 5 C, 6 C
text: 1, 2, 5, 6

## NSS40200LT1G
designator Q?
40 V, 4 A, Low VCE(sat), PNP Transistor, 3-Pin SOT-23, Pb-Free, Tape and Reel; Manufacturer: On Semiconductor; PartNumber: NSS40200LT1G; fT Min (MHz): 100; IC Continuous (A): -2; DatasheetVersion: Rev. 5; PackageVersion: Rev. AP, 11/2009; PackageReference: SOT-23-3-318-08; PackageDescription: 3-Pin Small Outline Transistor, Body 2.92 x 1.3 mm, Pitch 0.95 mm; Supplier 1: Digi-Key; Supplier Part Number 1: NSS40200LT1GOSTR-ND; Supplier 2: Digi-Key; Supplier Part Number 2: NSS40200LT1GOSCT-ND; Supplier 3: Digi-Key; Supplier Part Number 3: NSS40200LT1GOSDKR-ND; Supplier 4: Newark; Supplier Part Number 4: 27M2686; Supplier 5: Mouser; Supplier Part Number 5: 863-NSS40200LT1G; Packing: Tape and Reel; Polarity: PNP; RoHS: TRUE; Mounting Technology: Surface Mount; ComponentLink1Description: Manufacturer URL; ComponentLink1URL: http://www.onsemi.com/; ComponentLink2Description: Datasheet; ComponentLink2URL: http://www.onsemi.com/pub_link/Collateral/NSS40200L-D.PDF; ComponentLink3Description: Package Specification; ComponentLink3URL: http://www.onsemi.cn/pub_link/Collateral/318-08.PDF
footprint ONSC-SOT-23-3-318-08_V (SOT23, 3-Leads, Body 2.92x1.3mm, Pitch 0.95mm)
pins: 1 B, 2 E, 3 C

## NSS40200UW6T1G
designator Q?
40 V, 4 A, Low VCE(sat), PNP Transistor, 6-Pin WDFN, Pb-Free, Tape and Reel; Manufacturer: On Semiconductor; PartNumber: NSS40200UW6T1G; fT Min (MHz): 140; IC Continuous (A): -2; DatasheetVersion: Rev. 0; PackageVersion: Rev. B, 04/2006; PackageReference: WDFN-6-506AP-01; PackageDescription: 6-Pin Small Outline No-Lead, Body 2 x 2 mm, Pitch 0.65 mm; Supplier 1: Digi-Key; Supplier Part Number 1: NSS40200UW6T1GOSTR-ND; Supplier 2: Digi-Key; Supplier Part Number 2: NSS40200UW6T1GOSCT-ND; Supplier 3: Digi-Key; Supplier Part Number 3: NSS40200UW6T1GOSDKR-ND; Supplier 4: Mouser; Supplier Part Number 4: 863-NSS40200UW6T1G; Packing: Tape and Reel; Polarity: PNP; RoHS: TRUE; Mounting Technology: Surface Mount; ComponentLink1Description: Manufacturer URL; ComponentLink1URL: http://www.onsemi.com/; ComponentLink2Description: Datasheet; ComponentLink2URL: http://www.onsemi.com/pub_link/Collateral/NSS40200UW6-D.PDF; ComponentLink3Description: Package Specification; ComponentLink3URL: http://www.onsemi.com/pub_link/Collateral/506AP.PDF
footprint ONSC-WDFN-6-506AP-01_V (SON, 6-Leads, Body 2x2mm, Pitch 0.65mm)
pins: 1 C, 2 C, 3 B, 4 E, 5 C, 6 C, 7 C, 8 E
text: 1, 2, 5-7; 4, 8

## NSS40201LT1G
designator Q?
40 V, 2 A, Low VCE(sat), NPN Transistor, 3-Pin SOT-23, Pb-Free, Tape and Reel; Manufacturer: On Semiconductor; PartNumber: NSS40201LT1G; fT Min (MHz): 150; IC Continuous (A): 2; DatasheetVersion: Rev. 8; PackageVersion: Rev. AP, 11/2009; PackageReference: SOT-23-3-318-08; PackageDescription: 3-Pin Small Outline Transistor, Body 2.92 x 1.3 mm, Pitch 0.95 mm; Supplier 1: Digi-Key; Supplier Part Number 1: NSS40201LT1GOSTR-ND; Supplier 2: Digi-Key; Supplier Part Number 2: NSS40201LT1GOSCT-ND; Supplier 3: Digi-Key; Supplier Part Number 3: NSS40201LT1GOSDKR-ND; Supplier 4: Farnell; Supplier Part Number 4: 1468041; Supplier 5: Newark; Supplier Part Number 5: 50M4396; Supplier 6: Mouser; Supplier Part Number 6: 863-NSS40201LT1G; Packing: Tape and Reel; Polarity: NPN; RoHS: TRUE; Mounting Technology: Surface Mount; ComponentLink1Description: Manufacturer URL; ComponentLink1URL: http://www.onsemi.com/; ComponentLink2Description: Datasheet; ComponentLink2URL: http://www.onsemi.com/pub_link/Collateral/NSS40201L-D.PDF; ComponentLink3Description: Package Specification; ComponentLink3URL: http://www.onsemi.cn/pub_link/Collateral/318-08.PDF
footprint ONSC-SOT-23-3-318-08_V (SOT23, 3-Leads, Body 2.92x1.3mm, Pitch 0.95mm)
pins: 1 B, 2 E, 3 C

## NSS40300DDR2G
designator Q?
Dual 40 V, 6 A, Low VCE(sat), PNP Transistor, 8-Pin SOIC, Pb-Free, Tape and Reel; Manufacturer: On Semiconductor; PartNumber: NSS40300DDR2G; fT Min (MHz): 100; IC Continuous (A): -3; Polarity: Dual PNP; DatasheetVersion: Rev. 0; PackageVersion: Rev. AK, 02/2011; PackageReference: SOIC-8-751-07; PackageDescription: 8-Pin Small Outline Integrated Circuit, Body 4.9 x 3.9 mm, Pitch 1.27 mm; Supplier 1: Digi-Key; Supplier Part Number 1: NSS40300DDR2G-ND; Supplier 2: Mouser; Supplier Part Number 2: 863-NSS40300DDR2G; Packing: Tape and Reel; RoHS: TRUE; Mounting Technology: Surface Mount; ComponentLink1Description: Manufacturer URL; ComponentLink1URL: http://www.onsemi.com/; ComponentLink2Description: Datasheet; ComponentLink2URL: http://www.onsemi.com/pub_link/Collateral/NSS40300D-D.PDF; ComponentLink3Description: Package Specification; ComponentLink3URL: http://www.onsemi.com/pub_link/Collateral/751-07.PDF
footprint ONSC-SOIC-8-751-07_V (SOIC, 8-Leads, Body 4.9x3.9mm, Pitch 1.27mm)
part A pins: 1 E, 2 B, 7 C, 8 C
part B pins: 3 E, 4 B, 5 C, 6 C
part A text: 7, 8
part B text: 5, 6

## NSS40300MDR2G
designator Q?
Dual Matched 40 V, 6 A, Low VCE(sat), PNP Transistor, 8-Pin SOIC, Pb-Free, Tape and Reel; Manufacturer: On Semiconductor; PartNumber: NSS40300MDR2G; fT Min (MHz): 100; IC Continuous (A): -3; Polarity: Dual PNP; DatasheetVersion: Rev. 2; PackageVersion: Rev. AK, 02/2011; PackageReference: SOIC-8-751-07; PackageDescription: 8-Pin Small Outline Integrated Circuit, Body 4.9 x 3.9 mm, Pitch 1.27 mm; Supplier 1: Digi-Key; Supplier Part Number 1: NSS40300MDR2G-ND; Supplier 2: Newark; Supplier Part Number 2: 01P5107; Supplier 3: Mouser; Supplier Part Number 3: 863-NSS40300MDR2G; Packing: Tape and Reel; RoHS: TRUE; Mounting Technology: Surface Mount; ComponentLink1Description: Manufacturer URL; ComponentLink1URL: http://www.onsemi.com/; ComponentLink2Description: Datasheet; ComponentLink2URL: http://www.onsemi.com/pub_link/Collateral/NSS40300MD-D.PDF; ComponentLink3Description: Package Specification; ComponentLink3URL: http://www.onsemi.com/pub_link/Collateral/751-07.PDF
footprint ONSC-SOIC-8-751-07_V (SOIC, 8-Leads, Body 4.9x3.9mm, Pitch 1.27mm)
part A pins: 1 B, 2 E, 7 C, 8 C
part B pins: 3 B, 4 E, 5 C, 6 C
part A text: 7,8
part B text: 5,6

## NSS40300MZ4T1G
designator Q?
Bipolar Power Transistor, 40 V, 3 A, Low VCE(sat), PNP Transistor, 4-Pin SOT-223, Pb-Free, Tape and Reel; Manufacturer: On Semiconductor; PartNumber: NSS40300MZ4T1G; IC Continuous (A): 3; DatasheetVersion: Rev. 3; PackageVersion: Rev. N, 08/2009; PackageReference: SOT-223-4-318E-04; PackageDescription: 4-Pin Small Outline Transistor, Body 6.5 x 3.5 mm, Pitch 2.3 mm; Supplier 1: Digi-Key; Supplier Part Number 1: NSS40300MZ4T1GOSTR-ND; Supplier 2: Digi-Key; Supplier Part Number 2: NSS40300MZ4T1GOSCT-ND; Supplier 3: Digi-Key; Supplier Part Number 3: NSS40300MZ4T1GOSDKR-ND; Supplier 4: Newark; Supplier Part Number 4: 50M4397; Supplier 5: Mouser; Supplier Part Number 5: 863-NSS40300MZ4T1G; Packing: Tape and Reel; Polarity: PNP; RoHS: TRUE; Mounting Technology: Surface Mount; ComponentLink1Description: Manufacturer URL; ComponentLink1URL: http://www.onsemi.com/; ComponentLink2Description: Datasheet; ComponentLink2URL: http://www.onsemi.com/pub_link/Collateral/NSS40300MZ4-D.PDF; ComponentLink3Description: Package Specification; ComponentLink3URL: http://www.onsemi.com/pub_link/Collateral/318E-04.PDF
footprint ONSC-SOT-223-4-318E-04_V (SOT223, 4-Leads, Body 6.5x3.5mm, Pitch 2.3mm)
pins: 1 B, 2 C, 3 E, 4 C
text: 2, 4

## NSS40300MZ4T3G
designator Q?
Bipolar Power Transistor, 40 V, 3 A, Low VCE(sat), PNP Transistor, 4-Pin SOT-223, Pb-Free, Tape and Reel; Manufacturer: On Semiconductor; PartNumber: NSS40300MZ4T3G; IC Continuous (A): 3; DatasheetVersion: Rev. 3; PackageVersion: Rev. N, 08/2009; PackageReference: SOT-223-4-318E-04; PackageDescription: 4-Pin Small Outline Transistor, Body 6.5 x 3.5 mm, Pitch 2.3 mm; Supplier 1: Digi-Key; Supplier Part Number 1: NSS40300MZ4T3G-ND; Supplier 2: Mouser; Supplier Part Number 2: 863-NSS40300MZ4T3G; Packing: Tape and Reel; Polarity: PNP; RoHS: TRUE; Mounting Technology: Surface Mount; ComponentLink1Description: Manufacturer URL; ComponentLink1URL: http://www.onsemi.com/; ComponentLink2Description: Datasheet; ComponentLink2URL: http://www.onsemi.com/pub_link/Collateral/NSS40300MZ4-D.PDF; ComponentLink3Description: Package Specification; ComponentLink3URL: http://www.onsemi.com/pub_link/Collateral/318E-04.PDF
footprint ONSC-SOT-223-4-318E-04_V (SOT223, 4-Leads, Body 6.5x3.5mm, Pitch 2.3mm)
pins: 1 B, 2 C, 3 E, 4 C
text: 2, 4

## NSS40301MDR2G
designator Q?
Dual Matched 40 V, 6 A, Low VCE(sat), NPN Transistor, 8-Pin SOIC, Pb-Free, Tape and Reel; Manufacturer: On Semiconductor; PartNumber: NSS40301MDR2G; fT Min (MHz): 100; IC Continuous (A): 3; Polarity: Dual NPN; DatasheetVersion: Rev. 1; PackageVersion: Rev. AK, 02/2011; PackageReference: SOIC-8-751-07; PackageDescription: 8-Pin Small Outline Integrated Circuit, Body 4.9 x 3.9 mm, Pitch 1.27 mm; Supplier 1: Digi-Key; Supplier Part Number 1: NSS40301MDR2G-ND; Supplier 2: Mouser; Supplier Part Number 2: 863-NSS40301MDR2G; Packing: Tape and Reel; RoHS: TRUE; Mounting Technology: Surface Mount; ComponentLink1Description: Manufacturer URL; ComponentLink1URL: http://www.onsemi.com/; ComponentLink2Description: Datasheet; ComponentLink2URL: http://www.onsemi.com/pub_link/Collateral/NSS40301MD-D.PDF; ComponentLink3Description: Package Specification; ComponentLink3URL: http://www.onsemi.com/pub_link/Collateral/751-07.PDF
footprint ONSC-SOIC-8-751-07_V (SOIC, 8-Leads, Body 4.9x3.9mm, Pitch 1.27mm)
part A pins: 1 E, 2 B, 7 C, 8 C
part B pins: 3 E, 4 B, 5 C, 6 C
part A text: 7,8
part B text: 5,6

## NSS40301MZ4T1G
designator Q?
Bipolar Power Transistor, 40 V, 3 A, Low VCE(sat), NPN Transistor, 4-Pin SOT-223, Pb-Free, Tape and Reel; Manufacturer: On Semiconductor; PartNumber: NSS40301MZ4T1G; IC Continuous (A): 3; DatasheetVersion: Rev. 3; PackageVersion: Rev. N, 08/2009; PackageReference: SOT-223-4-318E-04; PackageDescription: 4-Pin Small Outline Transistor, Body 6.5 x 3.5 mm, Pitch 2.3 mm; Supplier 1: Digi-Key; Supplier Part Number 1: NSS40301MZ4T1GOSTR-ND; Supplier 2: Digi-Key; Supplier Part Number 2: NSS40301MZ4T1GOSCT-ND; Supplier 3: Digi-Key; Supplier Part Number 3: NSS40301MZ4T1GOSDKR-ND; Supplier 4: Newark; Supplier Part Number 4: 57M9899; Supplier 5: Mouser; Supplier Part Number 5: 863-NSS40301MZ4T1G; Packing: Tape and Reel; Polarity: NPN; RoHS: TRUE; Mounting Technology: Surface Mount; ComponentLink1Description: Manufacturer URL; ComponentLink1URL: http://www.onsemi.com/; ComponentLink2Description: Datasheet; ComponentLink2URL: http://www.onsemi.com/pub_link/Collateral/NSS40301MZ4-D.PDF; ComponentLink3Description: Package Specification; ComponentLink3URL: http://www.onsemi.com/pub_link/Collateral/318E-04.PDF
footprint ONSC-SOT-223-4-318E-04_V (SOT223, 4-Leads, Body 6.5x3.5mm, Pitch 2.3mm)
pins: 1 B, 2 C, 3 E, 4 C
text: 2, 4

## NSS40301MZ4T3G
designator Q?
Bipolar Power Transistor, 40 V, 3 A, Low VCE(sat), NPN Transistor, 4-Pin SOT-223, Pb-Free, Tape and Reel; Manufacturer: On Semiconductor; PartNumber: NSS40301MZ4T3G; IC Continuous (A): 3; DatasheetVersion: Rev. 3; PackageVersion: Rev. N, 08/2009; PackageReference: SOT-223-4-318E-04; PackageDescription: 4-Pin Small Outline Transistor, Body 6.5 x 3.5 mm, Pitch 2.3 mm; Supplier 1: Digi-Key; Supplier Part Number 1: NSS40301MZ4T3G-ND; Supplier 2: Mouser; Supplier Part Number 2: 863-NSS40301MZ4T3G; Packing: Tape and Reel; Polarity: NPN; RoHS: TRUE; Mounting Technology: Surface Mount; ComponentLink1Description: Manufacturer URL; ComponentLink1URL: http://www.onsemi.com/; ComponentLink2Description: Datasheet; ComponentLink2URL: http://www.onsemi.com/pub_link/Collateral/NSS40301MZ4-D.PDF; ComponentLink3Description: Package Specification; ComponentLink3URL: http://www.onsemi.com/pub_link/Collateral/318E-04.PDF
footprint ONSC-SOT-223-4-318E-04_V (SOT223, 4-Leads, Body 6.5x3.5mm, Pitch 2.3mm)
pins: 1 B, 2 C, 3 E, 4 C
text: 2, 4

## NSS40302PDR2G
designator Q?
Complementary 40 V, 6 A, Low VCE(sat), Transistor, 8-Pin SOIC, Pb-Free, Tape and Reel; Manufacturer: On Semiconductor; PartNumber: NSS40302PDR2G; fT Min (MHz): 100; IC Continuous (A): 3; DatasheetVersion: Rev. 0; PackageVersion: Rev. AK, 02/2011; PackageReference: SOIC-8-751-07; PackageDescription: 8-Pin Small Outline Integrated Circuit, Body 4.9 x 3.9 mm, Pitch 1.27 mm; Supplier 1: Digi-Key; Supplier Part Number 1: NSS40302PDR2G-ND; Supplier 2: Newark; Supplier Part Number 2: 13P5599; Supplier 3: Mouser; Supplier Part Number 3: 863-NSS40302PDR2G; Packing: Tape and Reel; Polarity: Complementary; RoHS: TRUE; Mounting Technology: Surface Mount; ComponentLink1Description: Manufacturer URL; ComponentLink1URL: http://www.onsemi.com/; ComponentLink2Description: Datasheet; ComponentLink2URL: http://www.onsemi.com/pub_link/Collateral/NSS40302P.PDF; ComponentLink3Description: Package Specification; ComponentLink3URL: http://www.onsemi.com/pub_link/Collateral/751-07.PDF
footprint ONSC-SOIC-8-751-07_V (SOIC, 8-Leads, Body 4.9x3.9mm, Pitch 1.27mm)
part A pins: 1 E, 2 B, 7 C, 8 C
part B pins: 3 E, 4 B, 5 C, 6 C
part A text: 7, 8
part B text: 5, 6

## NSS40500UW3T2G
designator Q?
40 V, 5 A, Low VCE(sat), PNP Transistor, 3-Pin WDFN, Pb-Free, Tape and Reel; Manufacturer: On Semiconductor; PartNumber: NSS40500UW3T2G; fT Min (MHz): 100; IC Continuous (A): -5; DatasheetVersion: Rev. 2; PackageVersion: Rev. O, 09/2005; PackageReference: WDFN-3-506AU-01; PackageDescription: 3-Pin Small Outline No-Lead, Body 2 x 2 mm, Pitch 1.3 mm; Supplier 1: Digi-Key; Supplier Part Number 1: NSS40500UW3T2G-ND; Supplier 2: Mouser; Supplier Part Number 2: 863-NSS40500UW3T2G; Packing: Tape and Reel; Polarity: PNP; RoHS: TRUE; Mounting Technology: Surface Mount; ComponentLink1Description: Manufacturer URL; ComponentLink1URL: http://www.onsemi.com/; ComponentLink2Description: Datasheet; ComponentLink2URL: http://www.onsemi.com/pub_link/Collateral/NSS40500UW3-D.PDF; ComponentLink3Description: Package Specification; ComponentLink3URL: http://www.onsemi.com/pub_link/Collateral/506AU.PDF
footprint ONSC-WDFN-3-506AU-01_V (WDFN, 3-Leads, Body 2 x 2mm, Pitch 1.3mm)
pins: 1 B, 2 E, 3 C

## NSS40501UW3T2G
designator Q?
40 V, 5 A, Low VCE(sat), NPN Transistor, 3-Pin WDFN, Pb-Free, Tape and Reel; Manufacturer: On Semiconductor; PartNumber: NSS40501UW3T2G; fT Min (MHz): 150; IC Continuous (A): 5; DatasheetVersion: Rev. 5; PackageVersion: Rev. O, 09/2005; PackageReference: WDFN-3-506AU-01; PackageDescription: 3-Pin Small Outline No-Lead, Body 2 x 2 mm, Pitch 1.3 mm; Supplier 1: Digi-Key; Supplier Part Number 1: NSS40501UW3T2GOSTR-ND; Supplier 2: Digi-Key; Supplier Part Number 2: NSS40501UW3T2GOSCT-ND; Supplier 3: Digi-Key; Supplier Part Number 3: NSS40501UW3T2GOSDKR-ND; Supplier 4: Newark; Supplier Part Number 4: 50M4399; Supplier 5: Mouser; Supplier Part Number 5: 863-NSS40501UW3T2G; Packing: Tape and Reel; Polarity: NPN; RoHS: TRUE; Mounting Technology: Surface Mount; ComponentLink1Description: Manufacturer URL; ComponentLink1URL: http://www.onsemi.com/; ComponentLink2Description: Datasheet; ComponentLink2URL: http://www.onsemi.com/pub_link/Collateral/NSS40501UW3-D.PDF; ComponentLink3Description: Package Specification; ComponentLink3URL: http://www.onsemi.com/pub_link/Collateral/506AU.PDF
footprint ONSC-WDFN-3-506AU-01_V (WDFN, 3-Leads, Body 2 x 2mm, Pitch 1.3mm)
pins: 1 B, 2 E, 3 C

## NSS40600CF8T1G
designator Q?
40 V, 7 A, Low VCE(sat), PNP Transistor, 8-Pin CHIPFET, Pb-Free, Tape and Reel; Manufacturer: On Semiconductor; PartNumber: NSS40600CF8T1G; fT Min (MHz): 100; IC Continuous (A): -6; DatasheetVersion: Rev. 4; PackageVersion: Rev. K, 05/2009; PackageReference: CHIPFET-8-1206A-03_K; PackageDescription: 8-Pin ChipFET, Body 3.025 x 1.625 mm, Pitch 0.635 mm; Supplier 1: Digi-Key; Supplier Part Number 1: NSS40600CF8T1G-ND; Supplier 2: Newark; Supplier Part Number 2: 27M2689; Supplier 3: Mouser; Supplier Part Number 3: 863-NSS40600CF8T1G; Packing: Tape and Reel; Polarity: PNP; RoHS: TRUE; Mounting Technology: Surface Mount; ComponentLink1Description: Manufacturer URL; ComponentLink1URL: http://www.onsemi.com/; ComponentLink2Description: Datasheet; ComponentLink2URL: http://www.onsemi.com/pub_link/Collateral/NSS40600CF8-D.PDF; ComponentLink3Description: Package Specification; ComponentLink3URL: http://www.onsemi.com/pub_link/Collateral/1206A-03.PDF
footprint ONSC-CHIPFET-8-1206A-03_K_V (SON, 8-Leads, Body 3.026x1.626mm, Pitch 0.65mm)
pins: 1 C, 2 C, 3 C, 4 B, 5 E, 6 C, 7 C, 8 C
text: 1-3, 6-8